# Altium footprint library Other.PcbLib: 47 footprints (part 3 of 3)
Each footprint in its own frame and in the unit in brackets; x right, y up, seen from the top. Pads: shape width x height; smd on the part's side, far side on the other; paste and mask are expansions set on the pad; w line width, h text height; cw(c..) or ccw(c..) is an arc to the next point about the centre after c.
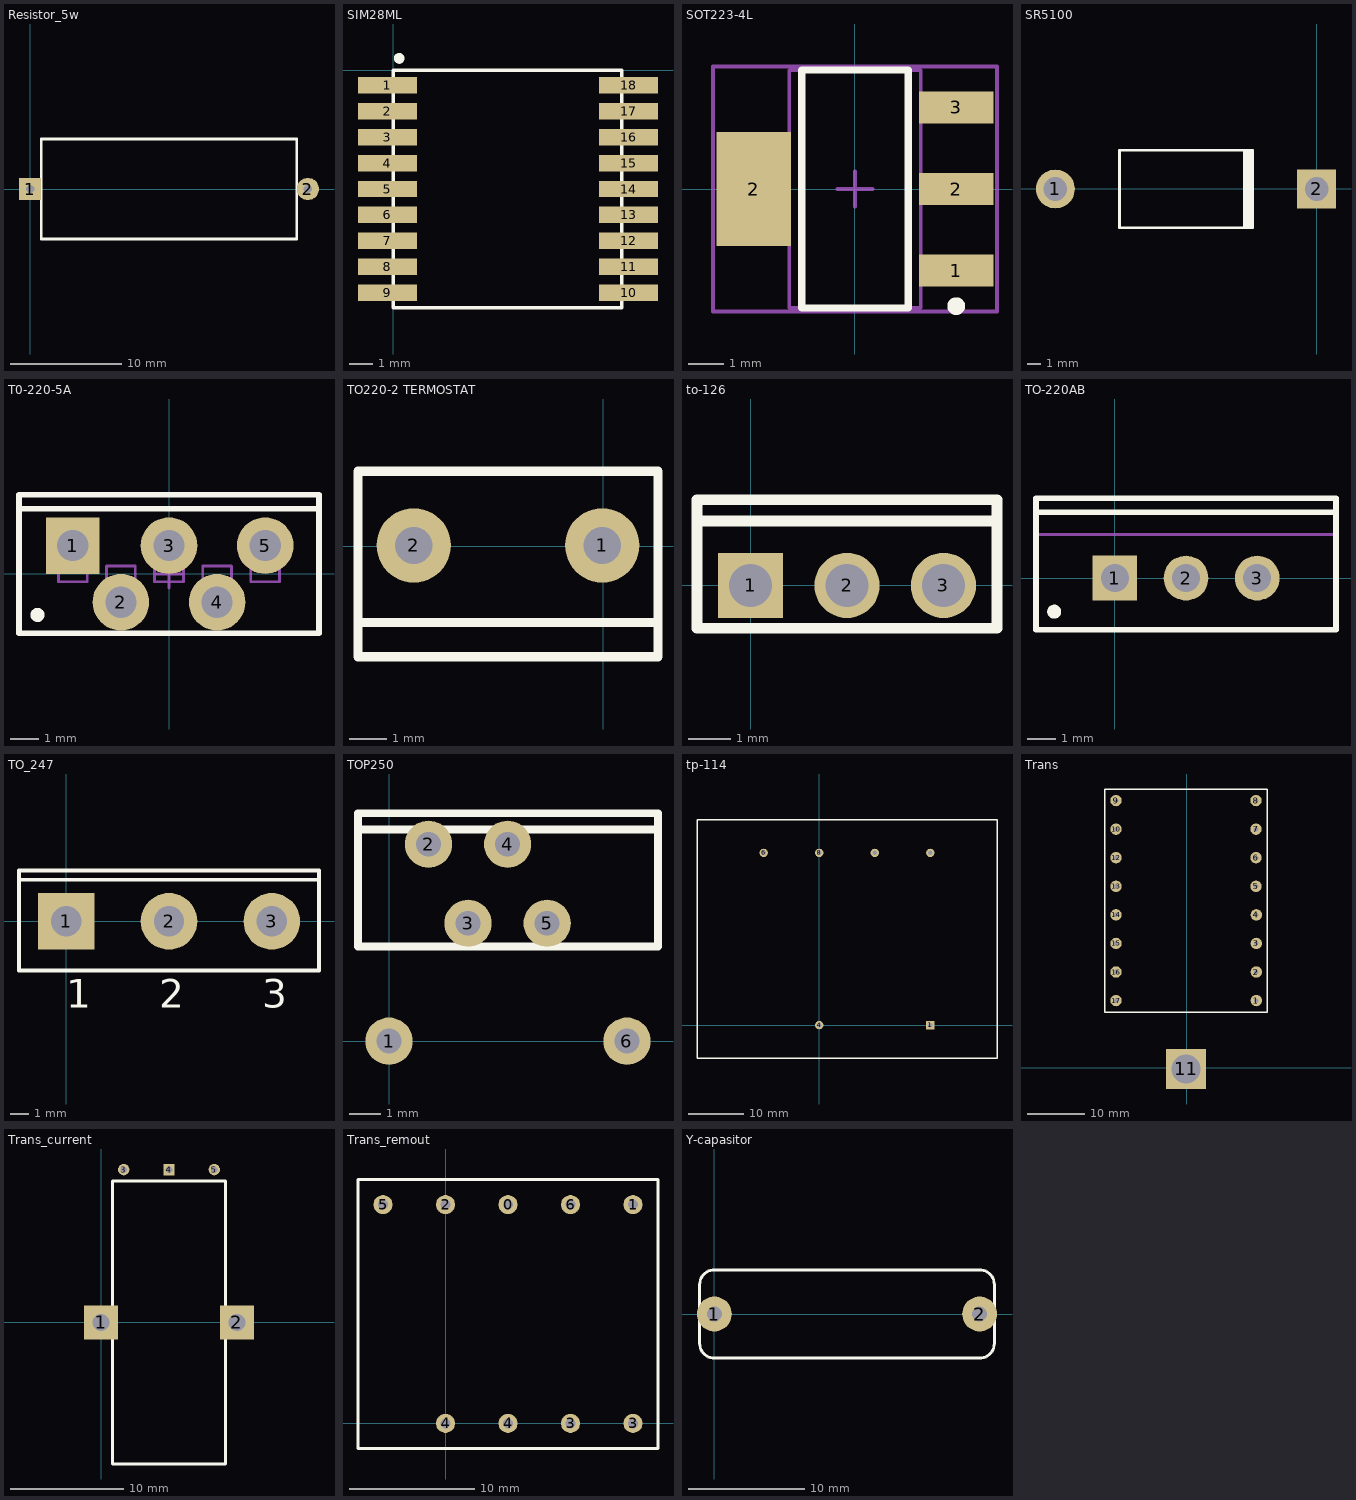
[diagram p2: the footprints below, top view; thin cyan lines are the x and y axes]

## Resistor_5w [mm]
height 9
pads (2):
  rect 2x2 hole 0.762: 1(0,0)
  round 2 hole 0.762: 2(25,0)
Top Overlay:
  lines w0.254: 1,-4.5 24,-4.5 24,4.5 1,4.5 1,-4.5

## SIM28ML [mm]
height 2.5
pads (18):
  rect 2.5x0.7 smd: 1(-0.25,-0.65) 2(-0.25,-1.75) 3(-0.25,-2.85) 4(-0.25,-3.95) 5(-0.25,-5.05) 6(-0.25,-6.15) 7(-0.25,-7.25) 8(-0.25,-8.35) 9(-0.25,-9.45) 10(10,-9.45) 11(10,-8.35) 12(10,-7.25) 13(10,-6.15) 14(10,-5.05) 15(10,-3.95) 16(10,-2.85) 17(10,-1.75) 18(10,-0.65)
Top Overlay:
  circle w0.254: c0.25,0.5 r0.1
  lines w0.15: 0,-10.1 9.7,-10.1 9.7,0 0,0 0,-10.1

## SOT223-4L [mm] "SOT223, 4-Leads, Body 6.5x3.5mm, Pitch 2.3mm, Lead Span 7mm, IPC High Density"
height 1.7
pads (4):
  rect 2.1x0.9 smd: 1(2.85,-2.3) 2(2.85,0) 3(2.85,2.3)
  rect 2.1x3.2 smd: 2(-2.85,0)
Top Overlay:
  circle w0.25: c2.85,-3.3 r0.125
  lines w0.2: -1.5,-3.35 1.5,-3.35 1.5,3.35 -1.5,3.35 -1.5,-3.35
Mechanical 13:
  lines w0.1: -1.85,-3.35 1.85,-3.35 1.85,3.35 -1.85,3.35 -1.85,-3.35
Mechanical 15:
  lines w0.1: -0.5,0 0.5,0 ; 0,-0.5 0,0.5 ; -4,-3.45 4,-3.45 4,3.45 -4,3.45 -4,-3.45
3D body: height 1.7, standoff 0, extent -1.85,-3.35 1.85,3.35

## SR5100 [mm]
height 7
pads (2):
  round 2.8 hole 1.7: 1(-18.84,0)
  rect 2.8x2.8 hole 1.7: 2(0,0)
Top Overlay:
  rectangle: -5.32,-2.8 -4.52,2.8
  lines w0.2: -4.62,-2.8 -14.22,-2.8 -14.22,2.8 -4.62,2.8

## T0-220-5A [mm] "TO, Thru-Hole, Vertical, Heatsink Mounted; 5 In-Line Leads; Pitch 1.70 mm"
height 19.6
pads (5):
  rect 1.9x2 hole 1.1: 1(-3.4,1)
  round 2 hole 1.1: 2(-1.7,-1) 3(0,1) 4(1.7,-1) 5(3.4,1)
Top Overlay:
  circle w0.25: c-4.65,-1.45 r0.125
  lines w0.2: -5.3,2.3 5.3,2.3 ; -5.3,-2.1 -5.3,2.8 5.3,2.8 5.3,-2.1 -5.3,-2.1
Mechanical 13:
  lines w0.1: -5.3,2.3 5.3,2.3 ; -5.3,-2.1 5.3,-2.1 5.3,2.8 -5.3,2.8 -5.3,-2.1 ; -3.91,-0.28 -2.89,-0.28 -2.89,0.28 -3.91,0.28 -3.91,-0.28 ; -2.21,-0.28 -1.19,-0.28 -1.19,0.28 -2.21,0.28 -2.21,-0.28 ; -0.51,-0.28 0.51,-0.28 0.51,0.28 -0.51,0.28 -0.51,-0.28 ; 1.19,-0.28 2.21,-0.28 2.21,0.28 1.19,0.28 1.19,-0.28 ; 2.89,-0.28 3.91,-0.28 3.91,0.28 2.89,0.28 2.89,-0.28
Mechanical 15:
  lines w0.1: -0.5,0 0.5,0 ; 0,-0.5 0,0.5
3D body: height 4.1, standoff 0, extent -0.509,-0.279 0.509,0.279
3D body: height 4.1, standoff 0, extent 2.891,-0.279 3.909,0.279
3D body: height 4.1, standoff 0, extent 1.191,-0.279 2.209,0.279
3D body: height 4.1, standoff 0, extent -2.209,-0.279 -1.191,0.279
3D body: height 4.1, standoff 0, extent -3.909,-0.279 -2.891,0.279
3D body: height 19.6, standoff 13, extent -5.299,2.301 5.299,2.799
3D body: height 13, standoff 4.1, extent -5.35,-2.15 5.35,2.85

## TO220-2 TERMOSTAT [mm]
height 20
pads (2):
  round 2 hole 1: 1(-0.025,0.025) 2(-5.1,0.025)
Top Overlay:
  lines w0.254: -6.6,2 -6.6,-2.975 1.45,-2.975 ; -6.6,2.025 1.475,2.025 1.475,-2.975 ; -6.575,-2.05 1.475,-2.05

## to-126 [mil]
height 472.44
pads (3):
  rect 60x60 hole 39.37: 1(0,0)
  round 60 hole 39.37: 2(88.58,0) 3(177.17,0)
Top Overlay:
  lines w10: -49.21,59.06 226.38,59.06 ; -49.21,-39.37 -49.21,78.74 226.38,78.74 226.38,-39.37 -49.21,-39.37

## TO-220AB [mm] "TO, Thru-Hole, Vertical, Heatsink Mounted; 3 In-Line Leads; Pitch 2.54 mm"
height 19.3
pads (3):
  rect 1.6x1.6 hole 1: 1(0,0)
  round 1.6 hole 1: 2(2.54,0) 3(5.08,0)
Top Overlay:
  circle w0.25: c-2.16,-1.2 r0.125
  lines w0.2: -2.81,2.35 7.89,2.35 ; -2.81,-1.85 7.89,-1.85 7.89,2.85 -2.81,2.85 -2.81,-1.85
Mechanical 13:
  lines w0.1: -2.81,1.55 7.89,1.55 ; -2.81,-1.85 -2.81,2.85 7.89,2.85 7.89,-1.85 -2.81,-1.85
Mechanical 15:
  lines w0.1: 2.04,0 3.04,0 ; 2.54,-0.5 2.54,0.5
3D body: height 19.3, standoff 12.9, extent -2.809,1.551 7.889,2.849
3D body: height 12.9, standoff 4, extent -2.86,-1.9 7.94,2.9

## TO_247 [mm]
height 30
pads (3):
  rect 3x3 hole 1.6: 1(0,0)
  round 3 hole 1.6: 2(5.45,0) 3(10.9,0)
Top Overlay:
  lines w0.2: -2.5,2.2 13.4,2.2 ; -2.5,-2.6 -2.5,2.7 13.4,2.7 13.4,-2.6 -2.5,-2.6
  text "3" at 10.392,-4.575 h1.5
  text "2" at 4.942,-4.575 h1.5
  text "1" at 0,-4.575 h1.5

## TOP250 [mm]
height 40
pads (6):
  round 1.524 hole 0.8: 1(0,0) 2(1.275,6.35) 3(2.55,3.8) 4(3.825,6.35) 5(5.1,3.8) 6(7.675,0)
Top Overlay:
  lines w0.254: -1,6.825 8.675,6.825 ; -1,3.05 8.675,3.05 8.675,7.35 -1,7.35 -1,3.05

## tp-114 [mm]
height 45
pads (6):
  rect 1.5x1.5 hole 0.8: 1(20,0)
  round 1.5 hole 0.8: 4(0,0) 6(-10,31) 8(0,31) 10(10,31) 12(20,31)
Top Overlay:
  lines w0.254: -22,-6 32,-6 32,37 -22,37 -22,-6

## Trans [mm]
height 40
pads (17):
  round 2 hole 0.8: 1(12.175,11.775) 2(12.175,16.775) 3(12.175,21.775) 4(12.175,26.775) 5(12.125,31.775) 6(12.125,36.775) 7(12.125,41.775) 8(12.125,46.775) 9(-12.375,46.775) 10(-12.375,41.775) 12(-12.375,36.775) 13(-12.375,31.775) 14(-12.375,26.775) 15(-12.375,21.775) 16(-12.375,16.775) 17(-12.375,11.775)
  rect 7x7 hole 5: 11(-0.125,-0.2)
Top Overlay:
  lines w0.254: -14.375,9.775 14.125,9.775 14.125,48.8 -14.35,48.8 -14.375,48.775 -14.375,9.775

## Trans_current [mm]
height 25
pads (5):
  rect 3x3 hole 1.5: 1(0,0) 2(12,0)
  round 1 hole 0.6: 3(2,13.5) 5(10,13.5)
  rect 1x1 hole 0.6: 4(6,13.5)
Top Overlay:
  lines w0.254: 1,-12.5 11,-12.5 11,12.5 1,12.5 1,-12.5

## Trans_remout [mm]
height 40
pads (9):
  round 1.524 hole 0.8: 0(5,17.5) 1(15,17.5) 2(0,17.5) 3(10,0) 3(15,0) 4(0,0) 4(5,0) 5(-5,17.5) 6(10,17.5)
Top Overlay:
  lines w0.254: -7,-2 -5,-2 16.975,-2 17,-1.975 17,19.5 -6.475,19.5 -7,19.5 -7,-2

## Y-capasitor [mm]
height 20
pads (2):
  round 3 hole 1.3: 1(0,0) 2(22.86,0)
Top Overlay:
  lines w0.254: -1.27,-2.54 ccw(c0,-2.54) 0,-3.81 22.86,-3.81 ccw(c22.86,-2.54) 24.13,-2.54 24.13,2.54 ccw(c22.86,2.54) 22.86,3.81 0,3.81 ccw(c0,2.54) -1.27,2.54 -1.27,-2.54